# Altium schematic symbol library SCH - POWER - SWITCHMODE - TI TPS61291DRV.SchLib: 1 symbol
Pins are listed as number, name and electrical type; pins without a type are passive.

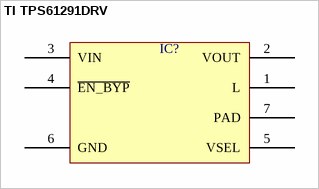
[diagram p0: symbol TI TPS61291DRV]

## TI TPS61291DRV
designator IC?  (value not drawn)
pins: 1 L, 2 VOUT, 3 VIN, 4 ~{EN_BYP}, 5 VSEL, 6 GND, 7 PAD